# EAGLE library part HK4001 (library my_ic)
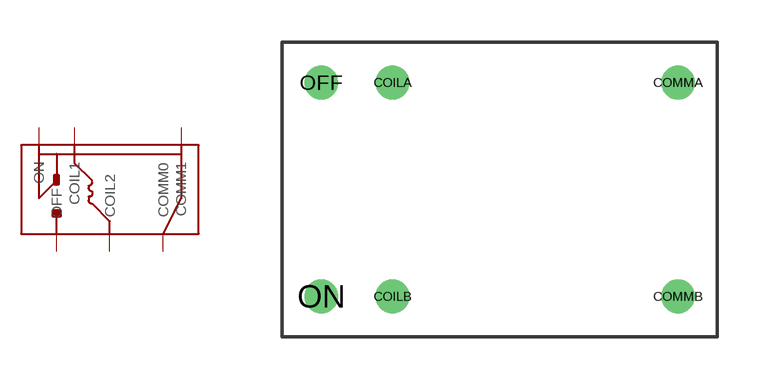
[diagram p8: symbol with the pads of HK4100; footprint HK4100]

Designator prefix -

## HK4001  [HK4100]
COILA  COIL1
COILB  COIL2
COMMA  COMM0
COMMB  COMM1
OFF  OFF
ON  ON

## Footprint HK4100 (pad centres in mm)
drill 0.7: COILA -3.81,3.81; COILB -3.81,-3.81; COMMA 6.35,3.81; COMMB 6.35,-3.81; OFF -6.35,3.81; ON -6.35,-3.81